# Altium schematic symbol library TP.SchLib: 2 symbols
Pins are listed as number, name and electrical type; pins without a type are passive.

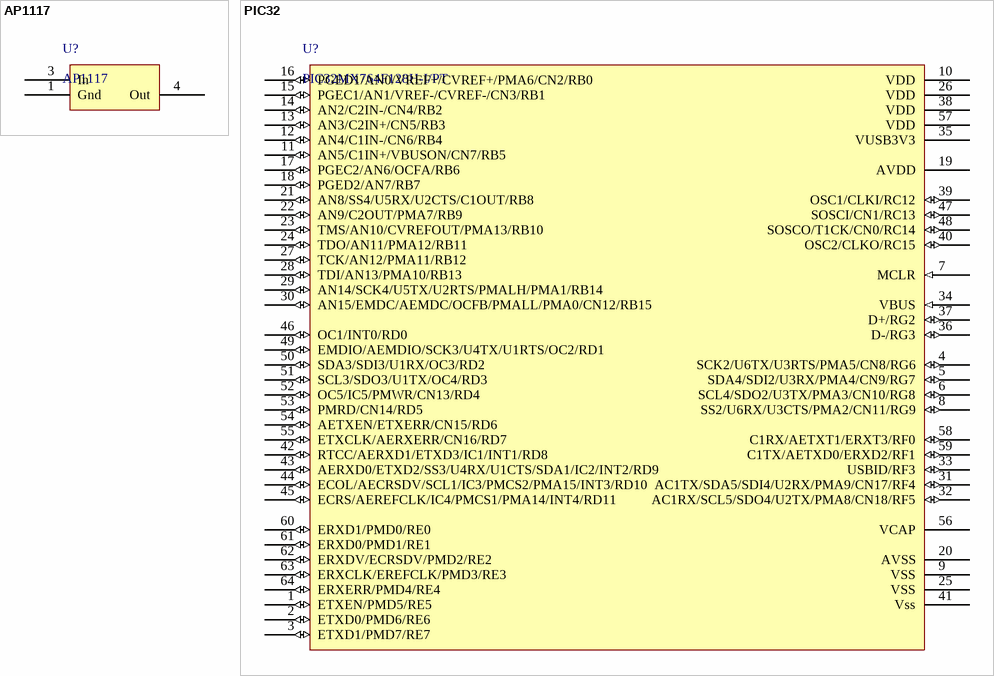
[diagram p0: symbols AP1117 to PIC32]

## AP1117
designator U?
footprint TD03B_N
pins: 1 Gnd, 3 In, 4 Out

## PIC32
designator U?, comment PIC32MX764F128H-I/PT
footprint QFP50P1200X1200X120-64
pins: 1 ETXEN/PMD5/RE5 (io), 2 ETXD0/PMD6/RE6 (io), 3 ETXD1/PMD7/RE7 (io), 4 SCK2/U6TX/U3RTS/PMA5/CN8/RG6 (io), 5 SDA4/SDI2/U3RX/PMA4/CN9/RG7 (io), 6 SCL4/SDO2/U3TX/PMA3/CN10/RG8 (io), 7 MCLR (in), 8 SS2/U6RX/U3CTS/PMA2/CN11/RG9 (io), 9 VSS (power), 10 VDD (power), 11 AN5/C1IN+/VBUSON/CN7/RB5 (io), 12 AN4/C1IN-/CN6/RB4 (io), 13 AN3/C2IN+/CN5/RB3 (io), 14 AN2/C2IN-/CN4/RB2 (io), 15 PGEC1/AN1/VREF-/CVREF-/CN3/RB1 (io), 16 PGED1/AN0/VREF+/CVREF+/PMA6/CN2/RB0 (io), 17 PGEC2/AN6/OCFA/RB6 (io), 18 PGED2/AN7/RB7 (io), 19 AVDD (power), 20 AVSS (power), 21 AN8/SS4/U5RX/U2CTS/C1OUT/RB8 (io), 22 AN9/C2OUT/PMA7/RB9 (io), 23 TMS/AN10/CVREFOUT/PMA13/RB10 (io), 24 TDO/AN11/PMA12/RB11 (io), 25 VSS (power), 26 VDD (power), 27 TCK/AN12/PMA11/RB12 (io), 28 TDI/AN13/PMA10/RB13 (io), 29 AN14/SCK4/U5TX/U2RTS/PMALH/PMA1/RB14 (io), 30 AN15/EMDC/AEMDC/OCFB/PMALL/PMA0/CN12/RB15 (io), 31 AC1TX/SDA5/SDI4/U2RX/PMA9/CN17/RF4 (io), 32 AC1RX/SCL5/SDO4/U2TX/PMA8/CN18/RF5 (io), 33 USBID/RF3 (io), 34 VBUS (in), 35 VUSB3V3 (power), 36 D-/RG3 (io), 37 D+/RG2 (io), 38 VDD (power), 39 OSC1/CLKI/RC12 (io), 40 OSC2/CLKO/RC15 (io), 41 Vss (power), 42 RTCC/AERXD1/ETXD3/IC1/INT1/RD8 (io), 43 AERXD0/ETXD2/SS3/U4RX/U1CTS/SDA1/IC2/INT2/RD9 (io), 44 ECOL/AECRSDV/SCL1/IC3/PMCS2/PMA15/INT3/RD10 (io), 45 ECRS/AEREFCLK/IC4/PMCS1/PMA14/INT4/RD11 (io), 46 OC1/INT0/RD0 (io), 47 SOSCI/CN1/RC13 (io), 48 SOSCO/T1CK/CN0/RC14 (io), 49 EMDIO/AEMDIO/SCK3/U4TX/U1RTS/OC2/RD1 (io), 50 SDA3/SDI3/U1RX/OC3/RD2 (io), 51 SCL3/SDO3/U1TX/OC4/RD3 (io), 52 OC5/IC5/PMWR/CN13/RD4 (io), 53 PMRD/CN14/RD5 (io), 54 AETXEN/ETXERR/CN15/RD6 (io), 55 ETXCLK/AERXERR/CN16/RD7 (io), 56 VCAP (power), 57 VDD (power), 58 C1RX/AETXT1/ERXT3/RF0 (io), 59 C1TX/AETXD0/ERXD2/RF1 (io), 60 ERXD1/PMD0/RE0 (io), 61 ERXD0/PMD1/RE1 (io), 62 ERXDV/ECRSDV/PMD2/RE2 (io), 63 ERXCLK/EREFCLK/PMD3/RE3 (io), 64 ERXERR/PMD4/RE4 (io)